# Altium schematic symbol library SY6280AAC.SchLib: 1 symbol
Pins are listed as number, name and electrical type; pins without a type are passive.

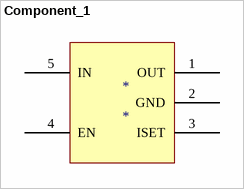
[diagram p0: symbol Component_1]

## Component_1
designator *
pins: 1 OUT, 2 GND, 3 ISET, 4 EN, 5 IN